# Altium integrated library Mosfet.IntLib: 1 symbol
Pins are listed as number, name and electrical type; pins without a type are passive.

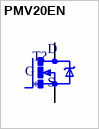
[diagram p0: symbol PMV20EN]

## PMV20EN
designator T?
MOSFET, N-CH, 30V, 7.6A, SOT-23-3; MF: NXP Semiconductors; MP: PMV20EN; SnapEDA_Link: https://www.snapeda.com/parts/PMV20EN/NXP+Semiconductors/view-part/?ref=snap; Package: SOT-23-3 NXP Semiconductors; Value: *; Check_prices: https://www.snapeda.com/parts/PMV20EN/NXP+Semiconductors/view-part/?ref=eda
footprint SOT23-BEC
pins: B G, C D, E S